# Altium integrated library TI Communication Sonar.IntLib: 3 symbols
Pins are listed as number, name and electrical type; pins without a type are passive.

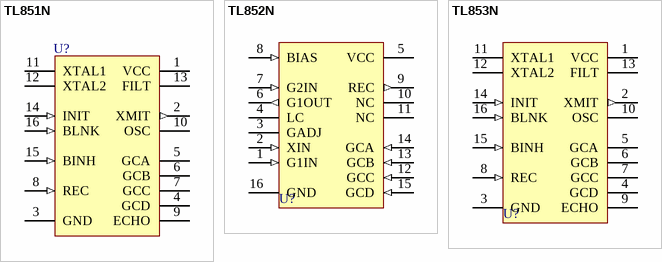
[diagram p0: symbols TL851N to TL853N]

## TL851N
designator U?
Sonar Ranging Control; Published: 15-Apr-2002; LatestRevisionDate: 08-Jul-2005; LatestRevisionNote: Stylized 3D Model Added.; DatasheetVersion: Mar-1988; PackageVersion: Oct-1995; PackageReference: N016; Publisher: Altium Limited; PackageDescription: DIP; 16 Leads; Row Spacing 7.62 mm; Pitch 2.54 mm; Code_JEDEC: MS-001-BB; ComponentLink1Description: Manufacturer Link; ComponentLink1URL: http://www.ti.com/
footprint N016 (DIP; 16 Leads; Row Spacing 7.62 mm; Pitch 2.54 mm)
3D model N016 (DIP; 16 Leads; Row Spacing 7.62 mm; Pitch 2.54 mm)
pins: 1 VCC (power), 2 XMIT (out), 3 GND (power), 4 GCD (oc), 5 GCA (oc), 6 GCB (oc), 7 GCC (oc), 8 REC (in), 9 ECHO (oc), 10 OSC (oc), 11 XTAL1, 12 XTAL2, 13 FILT, 14 INIT (in), 15 BINH (in), 16 BLNK (in)

## TL852N
designator U?
Sonar Ranging Receiver; Published: 15-Apr-2002; LatestRevisionDate: 08-Jul-2005; LatestRevisionNote: Stylized 3D Model Added.; DatasheetVersion: Mar-1988; PackageVersion: Oct-1995; PackageReference: N016; Publisher: Altium Limited; PackageDescription: DIP; 16 Leads; Row Spacing 7.62 mm; Pitch 2.54 mm; Code_JEDEC: MS-001-BB; ComponentLink1Description: Manufacturer Link; ComponentLink1URL: http://www.ti.com/
footprint N016 (DIP; 16 Leads; Row Spacing 7.62 mm; Pitch 2.54 mm)
3D model N016 (DIP; 16 Leads; Row Spacing 7.62 mm; Pitch 2.54 mm)
pins: 1 G1IN (in), 2 XIN (in), 3 GADJ, 4 LC, 5 VCC (power), 6 G1OUT (out), 7 G2IN (in), 8 BIAS (in), 9 REC (out), 10 NC, 11 NC, 12 GCC (in), 13 GCB (in), 14 GCA (in), 15 GCD (in), 16 GND (power)

## TL853N
designator U?
Sonar Ranging Control; Published: 15-Apr-2002; LatestRevisionDate: 08-Jul-2005; LatestRevisionNote: Stylized 3D Model Added.; DatasheetVersion: Mar-1988; PackageVersion: Oct-1995; PackageReference: N016; Publisher: Altium Limited; PackageDescription: DIP; 16 Leads; Row Spacing 7.62 mm; Pitch 2.54 mm; Code_JEDEC: MS-001-BB; ComponentLink1Description: Manufacturer Link; ComponentLink1URL: http://www.ti.com/
footprint N016 (DIP; 16 Leads; Row Spacing 7.62 mm; Pitch 2.54 mm)
3D model N016 (DIP; 16 Leads; Row Spacing 7.62 mm; Pitch 2.54 mm)
pins: 1 VCC (power), 2 XMIT (out), 3 GND (power), 4 GCD (oc), 5 GCA (oc), 6 GCB (oc), 7 GCC (oc), 8 REC (in), 9 ECHO (oc), 10 OSC (oc), 11 XTAL1, 12 XTAL2, 13 FILT, 14 INIT (in), 15 BINH (in), 16 BLNK (in)